# Altium footprint library Semicondutores_Ftp.PcbLib: 34 footprints (part 3 of 3)
Each footprint in its own frame and in the unit in brackets; x right, y up, seen from the top. Pads: shape width x height; smd on the part's side, far side on the other; paste and mask are expansions set on the pad; w line width, h text height; cw(c..) or ccw(c..) is an arc to the next point about the centre after c.
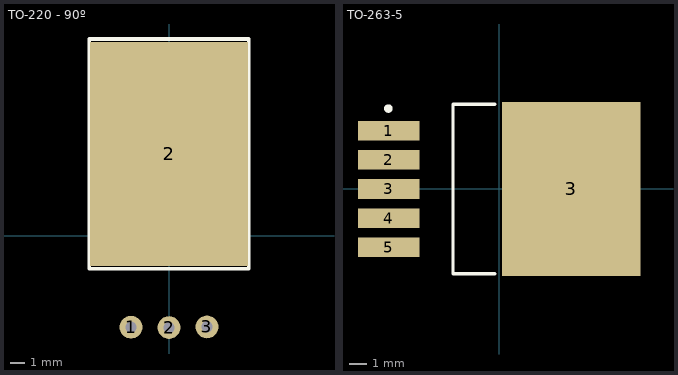
[diagram p2: the footprints below, top view; thin cyan lines are the x and y axes]

## TO-220 - 90º [mil]
pads (4):
  round 60 hole 30: 1(-100,-241.52) 2(0,-242.5) 3(100,-240.53)
  rect 417.32x590.55 smd: 2(0,215)
Top Overlay:
  lines w10: -210.04,-87.66 210.04,-87.66 ; -210.04,287.7 210.04,287.7 ; -210.01,-87.66 -210.04,517.58 210.04,517.58 210.01,-87.66
3D body: height 165.35, standoff -118.11, extent -200,-253.66 200,513.66

## TO-263-5 [mm] "D2-PAK, 6-Pads, Body 8,9x9,9mm (max), IPC Low Density"
height 4.65
pads (6):
  rect 3.6x1.15 smd: 1(-6.45,3.4) 2(-6.45,1.7) 3(-6.45,0) 4(-6.45,-1.7) 5(-6.45,-3.4)
  rect 8.1x10.15 smd paste-5: 3(4.2,0)
Top Overlay:
  circle w0.25: c-6.475,4.699 r0.125
  lines w0.2: -0.25,-4.95 -2.7,-4.95 -2.7,4.95 -0.25,4.95
Top Paste:
  rectangle: 0.254,-3.226 2.159,-1.956
  rectangle: 6.223,-3.226 8.128,-1.956
  rectangle: 2.667,-3.226 5.715,-1.956
  rectangle: 0.254,-4.953 2.159,-3.683
  rectangle: 6.223,-4.953 8.128,-3.683
  rectangle: 2.667,-4.953 5.715,-3.683
  rectangle: 0.254,-1.499 2.159,-0.229
  rectangle: 6.223,-1.499 8.128,-0.229
  rectangle: 2.667,-1.499 5.715,-0.229
  rectangle: 0.254,0.229 2.159,1.499
  rectangle: 6.223,0.229 8.128,1.499
  rectangle: 2.667,0.229 5.715,1.499
  rectangle: 0.254,1.956 2.159,3.226
  rectangle: 6.223,1.956 8.128,3.226
  rectangle: 2.667,1.956 5.715,3.226
  rectangle: 2.667,3.683 5.715,4.953
  rectangle: 6.223,3.683 8.128,4.953
  rectangle: 0.254,3.683 2.159,4.953
3D body: height 4.57, standoff -0.01, extent -7.308,-5.08 7.333,5.08